# Altium footprint library 510k_0805_resisotr_Components - 20.03.22 - 20.34.PcbLib: 3 footprints
Each footprint in its own frame and in the unit in brackets; x right, y up, seen from the top. Pads: shape width x height; smd on the part's side, far side on the other; paste and mask are expansions set on the pad; w line width, h text height; cw(c..) or ccw(c..) is an arc to the next point about the centre after c.
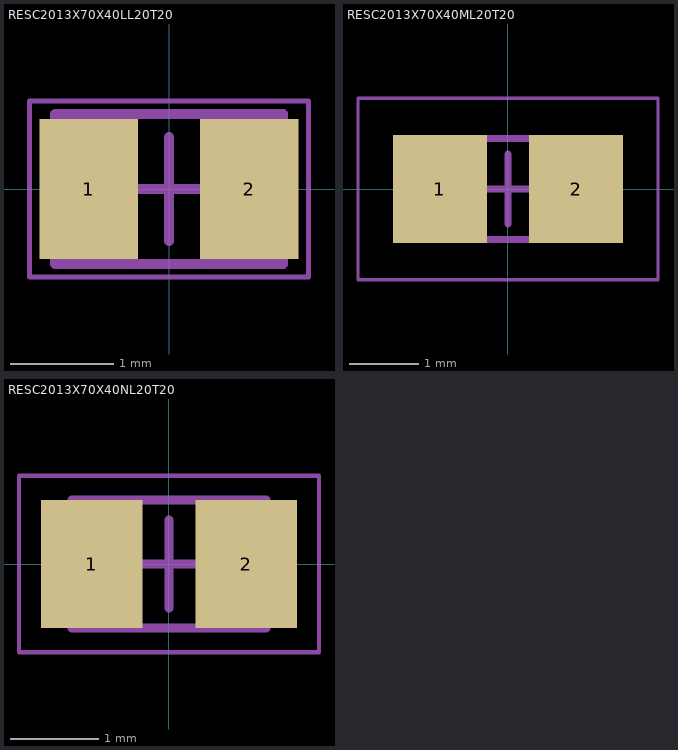
[diagram p0: the footprints below, top view; thin cyan lines are the x and y axes]

## RESC2013X70X40LL20T20 [mm] "Chip Resistor, 2-Leads, Body 2.00x1.25mm, IPC High Density"
height 0.7
pads (2):
  rect 0.95x1.35 smd: 1(-0.775,0) 2(0.775,0)
Mechanical 13:
  lines w0.1: -1.1,-0.725 1.1,-0.725 1.1,0.725 -1.1,0.725 -1.1,-0.725
Mechanical 15:
  lines w0.05: -1.35,-0.85 1.35,-0.85 1.35,0.85 -1.35,0.85 -1.35,-0.85
  lines w0.1: -0.5,0 0.5,0 ; 0,-0.5 0,0.5
3D body: height 0.7, standoff 0, extent 0.7,-0.725 1.1,0.725
3D body: height 0.7, standoff 0, extent -1.1,-0.725 -0.7,0.725
3D body: height 0.7, standoff 0, extent -0.7,-0.725 0.7,0.725

## RESC2013X70X40ML20T20 [mm] "Chip Resistor, 2-Leads, Body 2.00x1.25mm, IPC Low Density"
height 0.7
pads (2):
  rect 1.35x1.55 smd: 1(-0.975,0) 2(0.975,0)
Mechanical 13:
  lines w0.1: -1.1,-0.725 1.1,-0.725 1.1,0.725 -1.1,0.725 -1.1,-0.725
Mechanical 15:
  lines w0.05: -2.15,-1.3 2.15,-1.3 2.15,1.3 -2.15,1.3 -2.15,-1.3
  lines w0.1: -0.5,0 0.5,0 ; 0,-0.5 0,0.5
3D body: height 0.7, standoff 0, extent 0.7,-0.725 1.1,0.725
3D body: height 0.7, standoff 0, extent -1.1,-0.725 -0.7,0.725
3D body: height 0.7, standoff 0, extent -0.7,-0.725 0.7,0.725

## RESC2013X70X40NL20T20 [mm] "Chip Resistor, 2-Leads, Body 2.00x1.25mm, IPC Medium Density"
height 0.7
pads (2):
  rect 1.15x1.45 smd: 1(-0.875,0) 2(0.875,0)
Mechanical 13:
  lines w0.1: -1.1,-0.725 1.1,-0.725 1.1,0.725 -1.1,0.725 -1.1,-0.725
Mechanical 15:
  lines w0.05: -1.7,-1 1.7,-1 1.7,1 -1.7,1 -1.7,-1
  lines w0.1: -0.5,0 0.5,0 ; 0,-0.5 0,0.5
3D body: height 0.7, standoff 0, extent 0.7,-0.725 1.1,0.725
3D body: height 0.7, standoff 0, extent -1.1,-0.725 -0.7,0.725
3D body: height 0.7, standoff 0, extent -0.7,-0.725 0.7,0.725